# Altium footprint library TP BERGSTROM.PcbLib: 1 footprints
Each footprint in its own frame and in the unit in brackets; x right, y up, seen from the top. Pads: shape width x height; smd on the part's side, far side on the other; paste and mask are expansions set on the pad; w line width, h text height; cw(c..) or ccw(c..) is an arc to the next point about the centre after c.
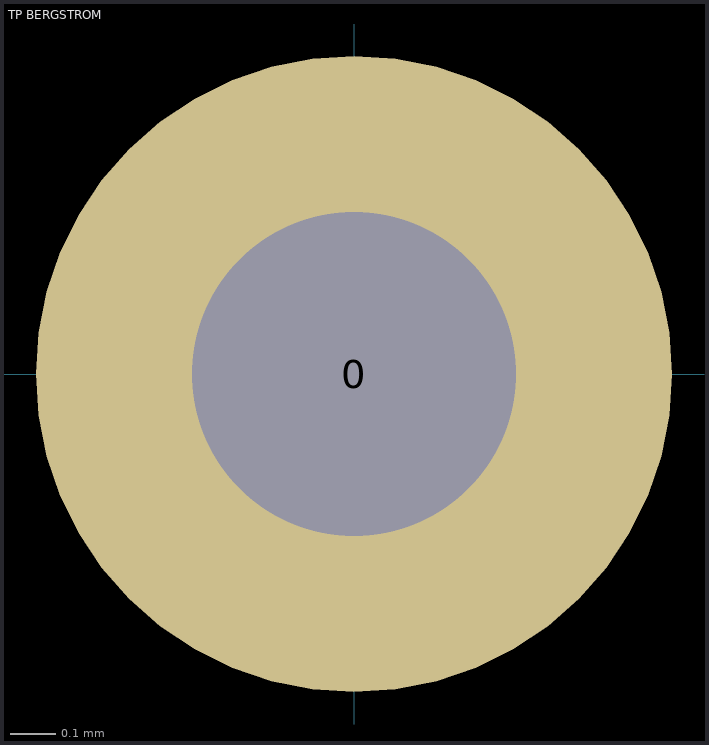
[diagram p0: the footprint, top view; thin cyan lines are the x and y axes]

## TP BERGSTROM [mil] "Testpoint, Round, 55 mil Surface Pad"
height 0
pads (1):
  round 55 hole 28 mask+5: 0(0,0)
3D body: height 0, standoff 0, extent -27.57,-27.52 27.43,27.46